# Altium footprint library RECEPTOR_AIS_R00.PcbLib: 42 footprints (part 3 of 3)
Each footprint in its own frame and in the unit in brackets; x right, y up, seen from the top. Pads: shape width x height; smd on the part's side, far side on the other; paste and mask are expansions set on the pad; w line width, h text height; cw(c..) or ccw(c..) is an arc to the next point about the centre after c.
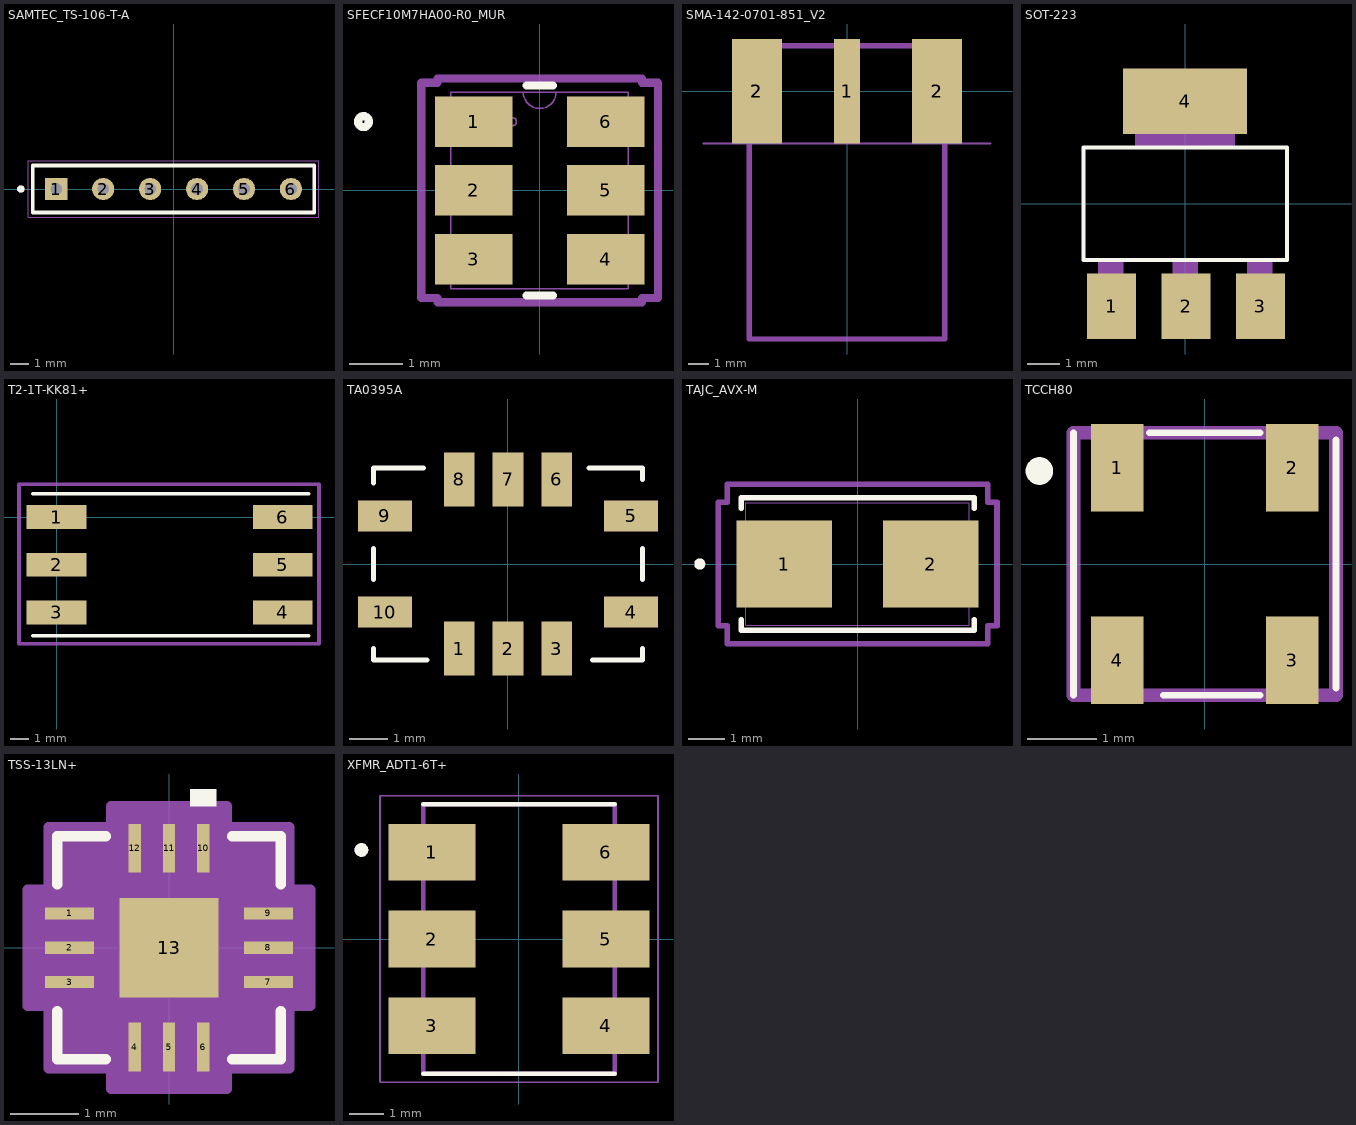
[diagram p2: the footprints below, top view; thin cyan lines are the x and y axes]

## SAMTEC_TS-106-T-A [mm]
pads (6):
  rect 1.2x1.2 / inner round 1.2 / far side rect 1.2x1.2 hole 0.635: 1(-6.35,0)
  round 1.2 hole 0.635: 2(-3.81,0) 3(-1.27,0) 4(1.27,0) 5(3.81,0) 6(6.35,0)
Top Overlay:
  circle w0.2: c-8.27,0 r0.1
  lines w0.2: -7.62,-1.27 7.62,-1.27 7.62,1.27 -7.62,1.27 -7.62,-1.27
Top 3D Body (Mech13):
  circle w0.2: c-8.27,0 r0.1
  lines w0.1: -7.62,-1.27 -7.62,1.27 ; -7.62,-1.27 7.62,-1.27 ; -7.62,-1.27 -7.62,1.27 ; -7.62,1.27 7.62,1.27 ; -7.62,1.27 7.62,1.27 ; 7.62,-1.27 7.62,1.27 ; 7.62,-1.27 7.62,1.27
Top Courtyard (Mech15):
  lines w0.05: -7.87,-1.52 7.87,-1.52 7.87,1.52 -7.87,1.52 -7.87,-1.52

## SFECF10M7HA00-R0_MUR [mm]
pads (6):
  rect 1.443x0.941 smd paste+0 mask+0: 1(-1.229,1.28) 2(-1.229,0) 3(-1.229,-1.28) 4(1.229,-1.28) 5(1.229,0) 6(1.229,1.28)
Top Overlay:
  circle w0.152: c-3.282,1.28 r0.102
  lines w0.152: -0.246,-1.956 0.246,-1.956 ; -0.246,1.956 0.246,1.956
Top 3D Body (Mech13):
  circle w0.025: c-0.508,1.28 r0.076
  lines w0.025: -0.305,1.829 ccw(c0,1.829) 0.305,1.829 ; -1.651,-1.829 -1.651,1.829 1.651,1.829 1.651,-1.829 -1.651,-1.829
Top Courtyard (Mech15):
  lines w0.152: -2.205,-2.004 -1.905,-2.004 -1.905,-2.083 1.905,-2.083 1.905,-2.004 2.205,-2.004 2.205,2.004 1.905,2.004 1.905,2.083 -1.905,2.083 -1.905,2.004 -2.205,2.004 -2.205,-2.004
3D body "SFECF10M7HA00-R0_MUR.step": height 1.4, standoff 0, extent -1.651,-1.829 1.651,1.829

## SMA-142-0701-851_V2 [mil]
pads (5):
  rect 50x200 smd: 1(0,0)
  rect 95x200 smd: 2(-172.5,0) 2(172.5,0)
  rect 95x200 smd far side: 2(-172.5,0) 2(172.5,0)
Top 3D Body (Mech13):
  lines w4: -275,-100 275,-100
  lines w10: -187.5,-474.99 187.5,-474.99 187.5,87 -187.5,87 -187.5,-474.99
3D body "142-0701-851.stp": height 161, standoff -151, extent -187.5,-499.99 187.5,62

## SOT-223 [mil]
pads (4):
  rect 59x79 smd: 1(-89,-124) 2(1,-124) 3(91,-124)
  rect 150x79 smd: 4(0,124)
Top Overlay:
  lines w5: -123,-68 123,-68 123,68 -123,68 -123,-68
Top 3D Body (Mech13):
  region: 15,-130.19 -15.02,-130.19 -15.02,-70 15,-70
  region: 105,-130.12 75.07,-130.12 75.07,-70 105,-70
  region: -75,-130.17 -105.14,-130.17 -105.14,-70 -75,-70
  region: 60,70.14 -60.12,70.14 -60.12,130 60,130
3D body "step_temp.STEP": height 70.87, standoff 0, extent -127.95,-137.75 127.95,137.75

## T2-1T-KK81+ [mm] "RF Balun 70kHz ~ 200MHz 1:2 6-SMD, Gull Wing"
pads (6):
  rect 3.175x1.27 smd paste-2539.97: 1(0,0) 2(0,-2.54) 3(0,-5.08) 4(12.065,-5.08) 5(12.065,-2.54) 6(12.065,0)
Top Overlay:
  lines w0.2: -1.25,-6.33 13.45,-6.33 ; -1.25,1.25 13.45,1.25
Top Courtyard (Mech15):
  lines w0.2: -2,-6.75 14,-6.75 14,1.75 -2,1.75 -2,-6.75

## TA0395A [mm] "PassBand Filter 156-162Mhz"
pads (10):
  rect 0.8x1.4 smd mask+0.1: 1(-1.27,-2.2) 2(0,-2.2) 3(1.27,-2.2) 6(1.27,2.2) 7(0,2.2) 8(-1.27,2.2)
  rect 1.4x0.8 smd mask+0.1: 4(3.2,-1.25) 5(3.2,1.25) 9(-3.2,1.25) 10(-3.2,-1.25)
Top Overlay:
  lines w0.127: -3.5,-2.2 -3.5,-2.5 -2.1,-2.5 ; -3.5,-0.4 -3.5,0.4 ; -3.5,2.1 -3.5,2.5 -2.2,2.5 ; 2.1,2.5 3.5,2.5 3.5,2.2 ; 2.2,-2.5 3.5,-2.5 3.5,-2.2 ; 3.5,-0.4 3.5,0.4
3D body "User Library-TA0395A SAW Filter 7_0mm x 5_0mm SMD.STEP": height 2, standoff -0.01, extent -3.5,-2.51 3.5,2.49

## TAJC_AVX-M [mil]
pads (2):
  rect 104x95 smd paste+0 mask+0: 1(-80,0) 2(80,0)
Top Overlay:
  circle w6: c-172,0 r3
  lines w6: -127,-60.6 -127,-72 127,-72 127,-60.6 ; -127,60.6 -127,72 127,72 127,60.6
Top 3D Body (Mech13):
  circle w1: c-112,0 r3
  lines w1: -122,-67 122,-67 122,67 -122,67 -122,-67
Top Courtyard (Mech15):
  lines w6: -152,-67.5 -152,67.5 -142,67.5 -142,87 142,87 142,67.5 152,67.5 152,-67.5 142,-67.5 142,-87 -142,-87 -142,-67.5 -152,-67.5
3D body "TAJC_AVX.step": height 112.01, standoff 0, extent -122.01,-67.01 122.01,67.01

## TCCH80 [mm]
pads (4):
  rect 0.76x1.27 smd: 1(-1.27,1.395) 2(1.27,1.395) 3(1.27,-1.395) 4(-1.27,-1.395)
Top Overlay:
  lines w0.1: -1.905,-1.905 -1.905,1.905 ; -0.8,1.905 0.8,1.905 ; -0.6,-1.905 0.8,-1.905 ; 1.905,-1.8 1.905,1.8
  lines w0.3: -2.4,1.3 ccw(c-2.4,1.35) -2.4,1.4 ccw(c-2.4,1.35) -2.4,1.3
Top Courtyard (Mech15):
  lines w0.2: -1.905,-1.905 1.905,-1.905 1.905,1.905 -1.905,1.905 -1.905,-1.905

## TSS-13LN+ [mil]
pads (13):
  rect 28x7 smd paste+0 mask+0: 1(-57,19.68) 2(-57,0) 3(-57,-19.68) 7(57,-19.68) 8(57,0) 9(57,19.68)
  rect 7x28 smd paste+0 mask+0: 4(-19.68,-57) 5(0,-57) 6(19.68,-57) 10(19.68,57) 11(0,57) 12(-19.68,57)
  rect 57x57 smd paste+0 mask+0: 13(0,0)
Top Overlay:
  region: 27.18,81 12.19,81 12.19,91 27.18,91
  lines w6: -64,-36.28 -64,-64 -36.28,-64 ; -64,36.28 -64,64 -36.28,64 ; 36.28,-64 64,-64 64,-36.28 ; 36.28,64 64,64 64,36.28
Top 3D Body (Mech13):
  lines w1: -59,9 -9,59 ; -59,-59 -59,59 59,59 59,-59 -59,-59 ; -59,-24.18 -59,-15.19 -59,-24.18 ; -59,-4.5 -59,4.5 -59,-4.5 ; -59,15.19 -59,24.18 -59,15.19 ; -24.18,-59 -15.19,-59 -24.18,-59 ; -24.18,59 -15.19,59 -24.18,59 ; -4.5,-59 4.5,-59 -4.5,-59 ; -4.5,59 4.5,59 -4.5,59 ; 15.19,-59 24.18,-59 15.19,-59 ; 15.19,59 24.18,59 15.19,59 ; 59,-24.18 59,-15.19 59,-24.18 ; 59,-4.5 59,4.5 59,-4.5 ; 59,15.19 59,24.18 59,15.19
  text "*" at -30.5,-5.32 h50
Top Courtyard (Mech15):
  region: -33.19,-69 -69,-69 -69,-33.19 -81,-33.19 -81,33.19 -69,33.19 -69,69 -33.19,69 -33.19,81 33.19,81 33.19,69 69,69 69,33.19 81,33.19 81,-33.19 69,-33.19 69,-69 33.19,-69 33.19,-81 -33.19,-81
  lines w6: -81,-33.19 -81,33.19 -69,33.19 -69,69 -33.19,69 -33.19,81 33.19,81 33.19,69 69,69 69,33.19 81,33.19 81,-33.19 69,-33.19 69,-69 33.19,-69 33.19,-81 -33.19,-81 -33.19,-69 -69,-69 -69,-33.19 -81,-33.19
3D body "DQ1225_MNC.step": height 35.12, standoff 0, extent -59.02,-59.02 59.02,59.02

## XFMR_ADT1-6T+ [mm]
height 5.23
pads (6):
  rect 2.54x1.65 smd: 1(-2.54,2.54) 2(-2.54,0) 3(-2.54,-2.54) 4(2.54,-2.54) 5(2.54,0) 6(2.54,2.54)
Top Overlay:
  circle w0.2: c-4.6,2.6 r0.1
  lines w0.127: -2.795,-3.935 2.795,-3.935 ; -2.795,3.935 2.795,3.935
Top 3D Body (Mech13):
  circle w0.2: c-4.6,2.6 r0.1
  lines w0.127: -2.795,-3.935 -2.795,3.935 2.795,3.935 2.795,-3.935 -2.795,-3.935
Top Courtyard (Mech15):
  lines w0.05: -4.06,-4.185 -4.06,4.185 4.06,4.185 4.06,-4.185 -4.06,-4.185
3D body "step_temp.STEP": height 2.84, standoff 0, extent -3.455,-3.935 3.455,3.935